# EAGLE library part EMBEST-MBC-SAM9G35-P (library keves)
edit this description Auto generated by make-symbol-device-package-bsdl.ulp Rev. 34 Source:
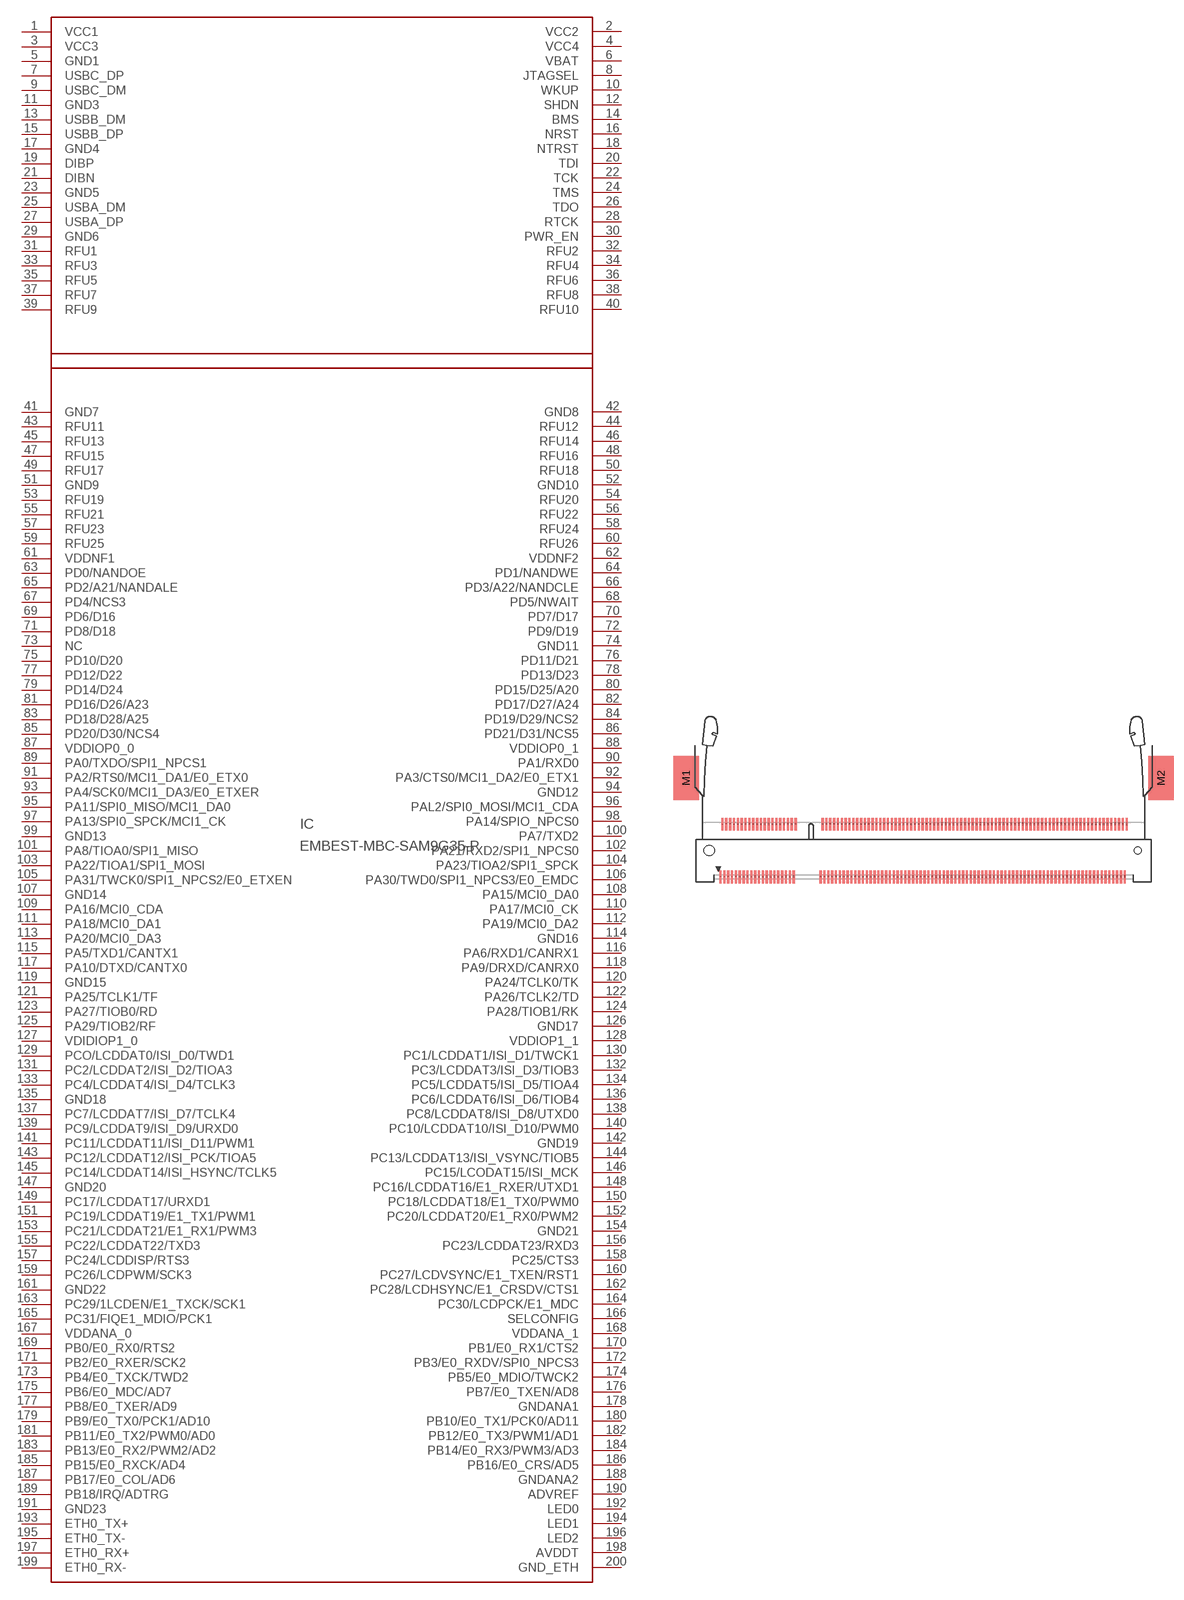
[diagram p7: symbol with the pads of 1612618-4; footprint 1612618-4]

Designator prefix IC

## EMBEST-MBC-SAM9G35-P  [1612618-4]
1  VCC1
2  VCC2
3  VCC3
4  VCC4
5  GND1
6  VBAT
7  USBC_DP
8  JTAGSEL
9  USBC_DM
10  WKUP
11  GND3
12  SHDN
13  USBB_DM
14  BMS
15  USBB_DP
16  NRST
17  GND4
18  NTRST
19  DIBP
20  TDI
21  DIBN
22  TCK
23  GND5
24  TMS
25  USBA_DM
26  TDO
27  USBA_DP
28  RTCK
29  GND6
30  PWR_EN
31  RFU1
32  RFU2
33  RFU3
34  RFU4
35  RFU5
36  RFU6
37  RFU7
38  RFU8
39  RFU9
40  RFU10
41  GND7
42  GND8
43  RFU11
44  RFU12
45  RFU13
46  RFU14
47  RFU15
48  RFU16
49  RFU17
50  RFU18
51  GND9
52  GND10
53  RFU19
54  RFU20
55  RFU21
56  RFU22
57  RFU23
58  RFU24
59  RFU25
60  RFU26
61  VDDNF1
62  VDDNF2
63  PD0/NANDOE
64  PD1/NANDWE
65  PD2/A21/NANDALE
66  PD3/A22/NANDCLE
67  PD4/NCS3
68  PD5/NWAIT
69  PD6/D16
70  PD7/D17
71  PD8/D18
72  PD9/D19
73  NC
74  GND11
75  PD10/D20
76  PD11/D21
77  PD12/D22
78  PD13/D23
79  PD14/D24
80  PD15/D25/A20
81  PD16/D26/A23
82  PD17/D27/A24
83  PD18/D28/A25
84  PD19/D29/NCS2
85  PD20/D30/NCS4
86  PD21/D31/NCS5
87  VDDIOP0_0
88  VDDIOP0_1
89  PA0/TXDO/SPI1_NPCS1
90  PA1/RXD0
91  PA2/RTS0/MCI1_DA1/E0_ETX0
92  PA3/CTS0/MCI1_DA2/E0_ETX1
93  PA4/SCK0/MCI1_DA3/E0_ETXER
94  GND12
95  PA11/SPI0_MISO/MCI1_DA0
96  PAL2/SPI0_MOSI/MCI1_CDA
97  PA13/SPI0_SPCK/MCI1_CK
98  PA14/SPIO_NPCS0
99  GND13
100  PA7/TXD2
101  PA8/TIOA0/SPI1_MISO
102  PA21/RXD2/SPI1_NPCS0
103  PA22/TIOA1/SPI1_MOSI
104  PA23/TIOA2/SPI1_SPCK
105  PA31/TWCK0/SPI1_NPCS2/E0_ETXEN
106  PA30/TWD0/SPI1_NPCS3/E0_EMDC
107  GND14
108  PA15/MCI0_DA0
109  PA16/MCI0_CDA
110  PA17/MCI0_CK
111  PA18/MCI0_DA1
112  PA19/MCI0_DA2
113  PA20/MCI0_DA3
114  GND16
115  PA5/TXD1/CANTX1
116  PA6/RXD1/CANRX1
117  PA10/DTXD/CANTX0
118  PA9/DRXD/CANRX0
119  GND15
120  PA24/TCLK0/TK
121  PA25/TCLK1/TF
122  PA26/TCLK2/TD
123  PA27/TIOB0/RD
124  PA28/TIOB1/RK
125  PA29/TIOB2/RF
126  GND17
127  VDIDIOP1_0
128  VDDIOP1_1
129  PCO/LCDDAT0/ISI_D0/TWD1
130  PC1/LCDDAT1/ISI_D1/TWCK1
131  PC2/LCDDAT2/ISI_D2/TIOA3
132  PC3/LCDDAT3/ISI_D3/TIOB3
133  PC4/LCDDAT4/ISI_D4/TCLK3
134  PC5/LCDDAT5/ISI_D5/TIOA4
135  GND18
136  PC6/LCDDAT6/ISI_D6/TIOB4
137  PC7/LCDDAT7/ISI_D7/TCLK4
138  PC8/LCDDAT8/ISI_D8/UTXD0
139  PC9/LCDDAT9/ISI_D9/URXD0
140  PC10/LCDDAT10/ISI_D10/PWM0
141  PC11/LCDDAT11/ISI_D11/PWM1
142  GND19
143  PC12/LCDDAT12/ISI_PCK/TIOA5
144  PC13/LCDDAT13/ISI_VSYNC/TIOB5
145  PC14/LCDDAT14/ISI_HSYNC/TCLK5
146  PC15/LCODAT15/ISI_MCK
147  GND20
148  PC16/LCDDAT16/E1_RXER/UTXD1
149  PC17/LCDDAT17/URXD1
150  PC18/LCDDAT18/E1_TX0/PWM0
151  PC19/LCDDAT19/E1_TX1/PWM1
152  PC20/LCDDAT20/E1_RX0/PWM2
153  PC21/LCDDAT21/E1_RX1/PWM3
154  GND21
155  PC22/LCDDAT22/TXD3
156  PC23/LCDDAT23/RXD3
157  PC24/LCDDISP/RTS3
158  PC25/CTS3
159  PC26/LCDPWM/SCK3
160  PC27/LCDVSYNC/E1_TXEN/RST1
161  GND22
162  PC28/LCDHSYNC/E1_CRSDV/CTS1
163  PC29/1LCDEN/E1_TXCK/SCK1
164  PC30/LCDPCK/E1_MDC
165  PC31/FIQE1_MDIO/PCK1
166  SELCONFIG
167  VDDANA_0
168  VDDANA_1
169  PB0/E0_RX0/RTS2
170  PB1/E0_RX1/CTS2
171  PB2/E0_RXER/SCK2
172  PB3/E0_RXDV/SPI0_NPCS3
173  PB4/E0_TXCK/TWD2
174  PB5/E0_MDIO/TWCK2
175  PB6/E0_MDC/AD7
176  PB7/E0_TXEN/AD8
177  PB8/E0_TXER/AD9
178  GNDANA1
179  PB9/E0_TX0/PCK1/AD10
180  PB10/E0_TX1/PCK0/AD11
181  PB11/E0_TX2/PWM0/AD0
182  PB12/E0_TX3/PWM1/AD1
183  PB13/E0_RX2/PWM2/AD2
184  PB14/E0_RX3/PWM3/AD3
185  PB15/E0_RXCK/AD4
186  PB16/E0_CRS/AD5
187  PB17/E0_COL/AD6
188  GNDANA2
189  PB18/IRQ/ADTRG
190  ADVREF
191  GND23
192  LED0
193  ETH0_TX+
194  LED1
195  ETH0_TX-
196  LED2
197  ETH0_RX+
198  AVDDT
199  ETH0_RX-
200  GND_ETH

## Footprint 1612618-4 (pad centres in mm)
smd 0.35 x 2: 1 -31.65,-4.1; 2 -31.35,4.1; 3 -31.05,-4.1; 4 -30.75,4.1; 5 -30.45,-4.1; 6 -30.15,4.1; 7 -29.85,-4.1; 8 -29.55,4.1; 9 -29.25,-4.1; 10 -28.95,4.1; 11 -28.65,-4.1; 12 -28.35,4.1; 13 -28.05,-4.1; 14 -27.75,4.1; 15 -27.45,-4.1; 16 -27.15,4.1; 17 -26.85,-4.1; 18 -26.55,4.1; 19 -26.25,-4.1; 20 -25.95,4.1; 21 -25.65,-4.1; 22 -25.35,4.1; 23 -25.05,-4.1; 24 -24.75,4.1; 25 -24.45,-4.1; 26 -24.15,4.1; 27 -23.85,-4.1; 28 -23.55,4.1; 29 -23.25,-4.1; 30 -22.95,4.1; 31 -22.65,-4.1; 32 -22.35,4.1; 33 -22.05,-4.1; 34 -21.75,4.1; 35 -21.45,-4.1; 36 -21.15,4.1; 37 -20.85,-4.1; 38 -20.55,4.1; 39 -20.25,-4.1; 40 -19.95,4.1; 41 -16.05,-4.1; 42 -15.75,4.1; 43 -15.45,-4.1; 44 -15.15,4.1; 45 -14.85,-4.1; 46 -14.55,4.1; 47 -14.25,-4.1; 48 -13.95,4.1; 49 -13.65,-4.1; 50 -13.35,4.1; 51 -13.05,-4.1; 52 -12.75,4.1; 53 -12.45,-4.1; 54 -12.15,4.1; 55 -11.85,-4.1; 56 -11.55,4.1; 57 -11.25,-4.1; 58 -10.95,4.1; 59 -10.65,-4.1; 60 -10.35,4.1; 61 -10.05,-4.1; 62 -9.75,4.1; 63 -9.45,-4.1; 64 -9.15,4.1; 65 -8.85,-4.1; 66 -8.55,4.1; 67 -8.25,-4.1; 68 -7.95,4.1; 69 -7.65,-4.1; 70 -7.35,4.1; 71 -7.05,-4.1; 72 -6.75,4.1; 73 -6.45,-4.1; 74 -6.15,4.1; 75 -5.85,-4.1; 76 -5.55,4.1; 77 -5.25,-4.1; 78 -4.95,4.1; 79 -4.65,-4.1; 80 -4.35,4.1; 81 -4.05,-4.1; 82 -3.75,4.1; 83 -3.45,-4.1; 84 -3.15,4.1; 85 -2.85,-4.1; 86 -2.55,4.1; 87 -2.25,-4.1; 88 -1.95,4.1; 89 -1.65,-4.1; 90 -1.35,4.1; 91 -1.05,-4.1; 92 -0.75,4.1; 93 -0.45,-4.1; 94 -0.15,4.1; 95 0.15,-4.1; 96 0.45,4.1; 97 0.75,-4.1; 98 1.05,4.1; 99 1.35,-4.1; 100 1.65,4.1; 101 1.95,-4.1; 102 2.25,4.1; 103 2.55,-4.1; 104 2.85,4.1; 105 3.15,-4.1; 106 3.45,4.1; 107 3.75,-4.1; 108 4.05,4.1; 109 4.35,-4.1; 110 4.65,4.1; 111 4.95,-4.1; 112 5.25,4.1; 113 5.55,-4.1; 114 5.85,4.1; 115 6.15,-4.1; 116 6.45,4.1; 117 6.75,-4.1; 118 7.05,4.1; 119 7.35,-4.1; 120 7.65,4.1; 121 7.95,-4.1; 122 8.25,4.1; 123 8.55,-4.1; 124 8.85,4.1; 125 9.15,-4.1; 126 9.45,4.1; 127 9.75,-4.1; 128 10.05,4.1; 129 10.35,-4.1; 130 10.65,4.1; 131 10.95,-4.1; 132 11.25,4.1; 133 11.55,-4.1; 134 11.85,4.1; 135 12.15,-4.1; 136 12.45,4.1; 137 12.75,-4.1; 138 13.05,4.1; 139 13.35,-4.1; 140 13.65,4.1; 141 13.95,-4.1; 142 14.25,4.1; 143 14.55,-4.1; 144 14.85,4.1; 145 15.15,-4.1; 146 15.45,4.1; 147 15.75,-4.1; 148 16.05,4.1; 149 16.35,-4.1; 150 16.65,4.1; 151 16.95,-4.1; 152 17.25,4.1; 153 17.55,-4.1; 154 17.85,4.1; 155 18.15,-4.1; 156 18.45,4.1; 157 18.75,-4.1; 158 19.05,4.1; 159 19.35,-4.1; 160 19.65,4.1; 161 19.95,-4.1; 162 20.25,4.1; 163 20.55,-4.1; 164 20.85,4.1; 165 21.15,-4.1; 166 21.45,4.1; 167 21.75,-4.1; 168 22.05,4.1; 169 22.35,-4.1; 170 22.65,4.1; 171 22.95,-4.1; 172 23.25,4.1; 173 23.55,-4.1; 174 23.85,4.1; 175 24.15,-4.1; 176 24.45,4.1; 177 24.75,-4.1; 178 25.05,4.1; 179 25.35,-4.1; 180 25.65,4.1; 181 25.95,-4.1; 182 26.25,4.1; 183 26.55,-4.1; 184 26.85,4.1; 185 27.15,-4.1; 186 27.45,4.1; 187 27.75,-4.1; 188 28.05,4.1; 189 28.35,-4.1; 190 28.65,4.1; 191 28.95,-4.1; 192 29.25,4.1; 193 29.55,-4.1; 194 29.85,4.1; 195 30.15,-4.1; 196 30.45,4.1; 197 30.75,-4.1; 198 31.05,4.1; 199 31.35,-4.1; 200 31.65,4.1
smd 4 x 6.8: M1 -37,11.3; M2 37,11.3
hole 1.6 at -33.4,0
hole 1.1 at 33.4,0